# Altium footprint library Marvell.PcbLib: 1 footprints
Each footprint in its own frame and in the unit in brackets; x right, y up, seen from the top. Pads: shape width x height; smd on the part's side, far side on the other; paste and mask are expansions set on the pad; w line width, h text height; cw(c..) or ccw(c..) is an arc to the next point about the centre after c.
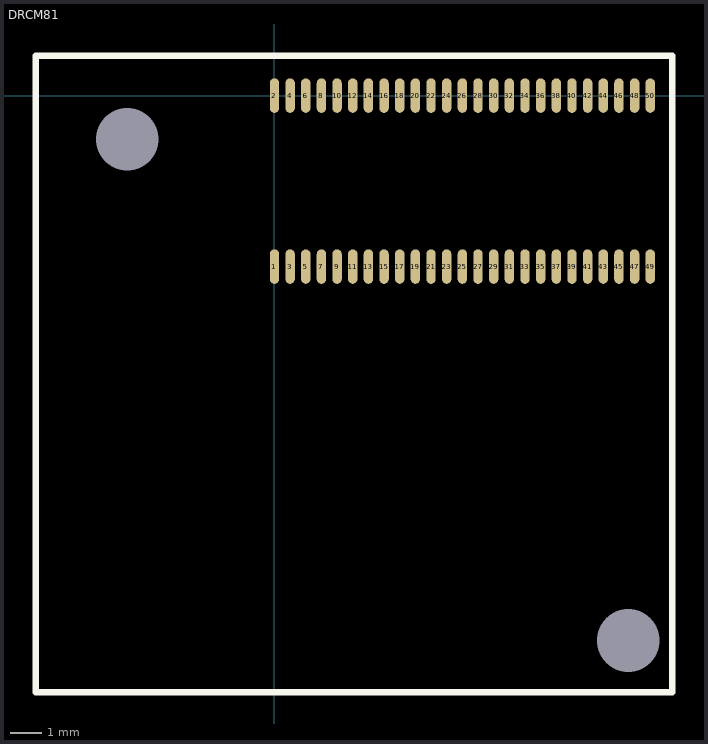
[diagram p0: the footprint, top view; thin cyan lines are the x and y axes]

## DRCM81 [mm]
height 2.794
pads (52):
  oval 0.3x1.1 smd: 1(0,-5.461) 2(0,0) 3(0.5,-5.461) 4(0.5,0) 5(1,-5.461) 6(1,0) 7(1.5,-5.461) 8(1.5,0) 9(2,-5.461) 10(2,0) 11(2.5,-5.461) 12(2.5,0) 13(3,-5.461) 14(3,0) 15(3.5,-5.461) 16(3.5,0) 17(4,-5.461) 18(4,0) 19(4.5,-5.461) 20(4.5,0) 21(5,-5.461) 22(5,0) 23(5.5,-5.461) 24(5.5,0) 25(6,-5.461) 26(6,0) 27(6.5,-5.461) 28(6.5,0) 29(7,-5.461) 30(7,0) 31(7.5,-5.461) 32(7.5,0) 33(8,-5.461) 34(8,0) 35(8.5,-5.461) 36(8.5,0) 37(9,-5.461) 38(9,0) 39(9.5,-5.461) 40(9.5,0) 41(10,-5.461) 42(10,0) 43(10.5,-5.461) 44(10.5,0) 45(11,-5.461) 46(11,0) 47(11.5,-5.461) 48(11.5,0) 49(12,-5.461) 50(12,0)
  round 0 hole 2: CASE(-4.699,-1.397) CASE(11.303,-17.399)
Top Overlay:
  lines w0.203: -7.62,-19.05 12.7,-19.05 12.7,1.27 -7.62,1.27 -7.62,-19.05